# Altium footprint library HEXCAL_PCB_LIB.PcbLib: 209 footprints (part 1 of 14)
Each footprint in its own frame and in the unit in brackets; x right, y up, seen from the top. Pads: shape width x height; smd on the part's side, far side on the other; paste and mask are expansions set on the pad; w line width, h text height; cw(c..) or ccw(c..) is an arc to the next point about the centre after c.
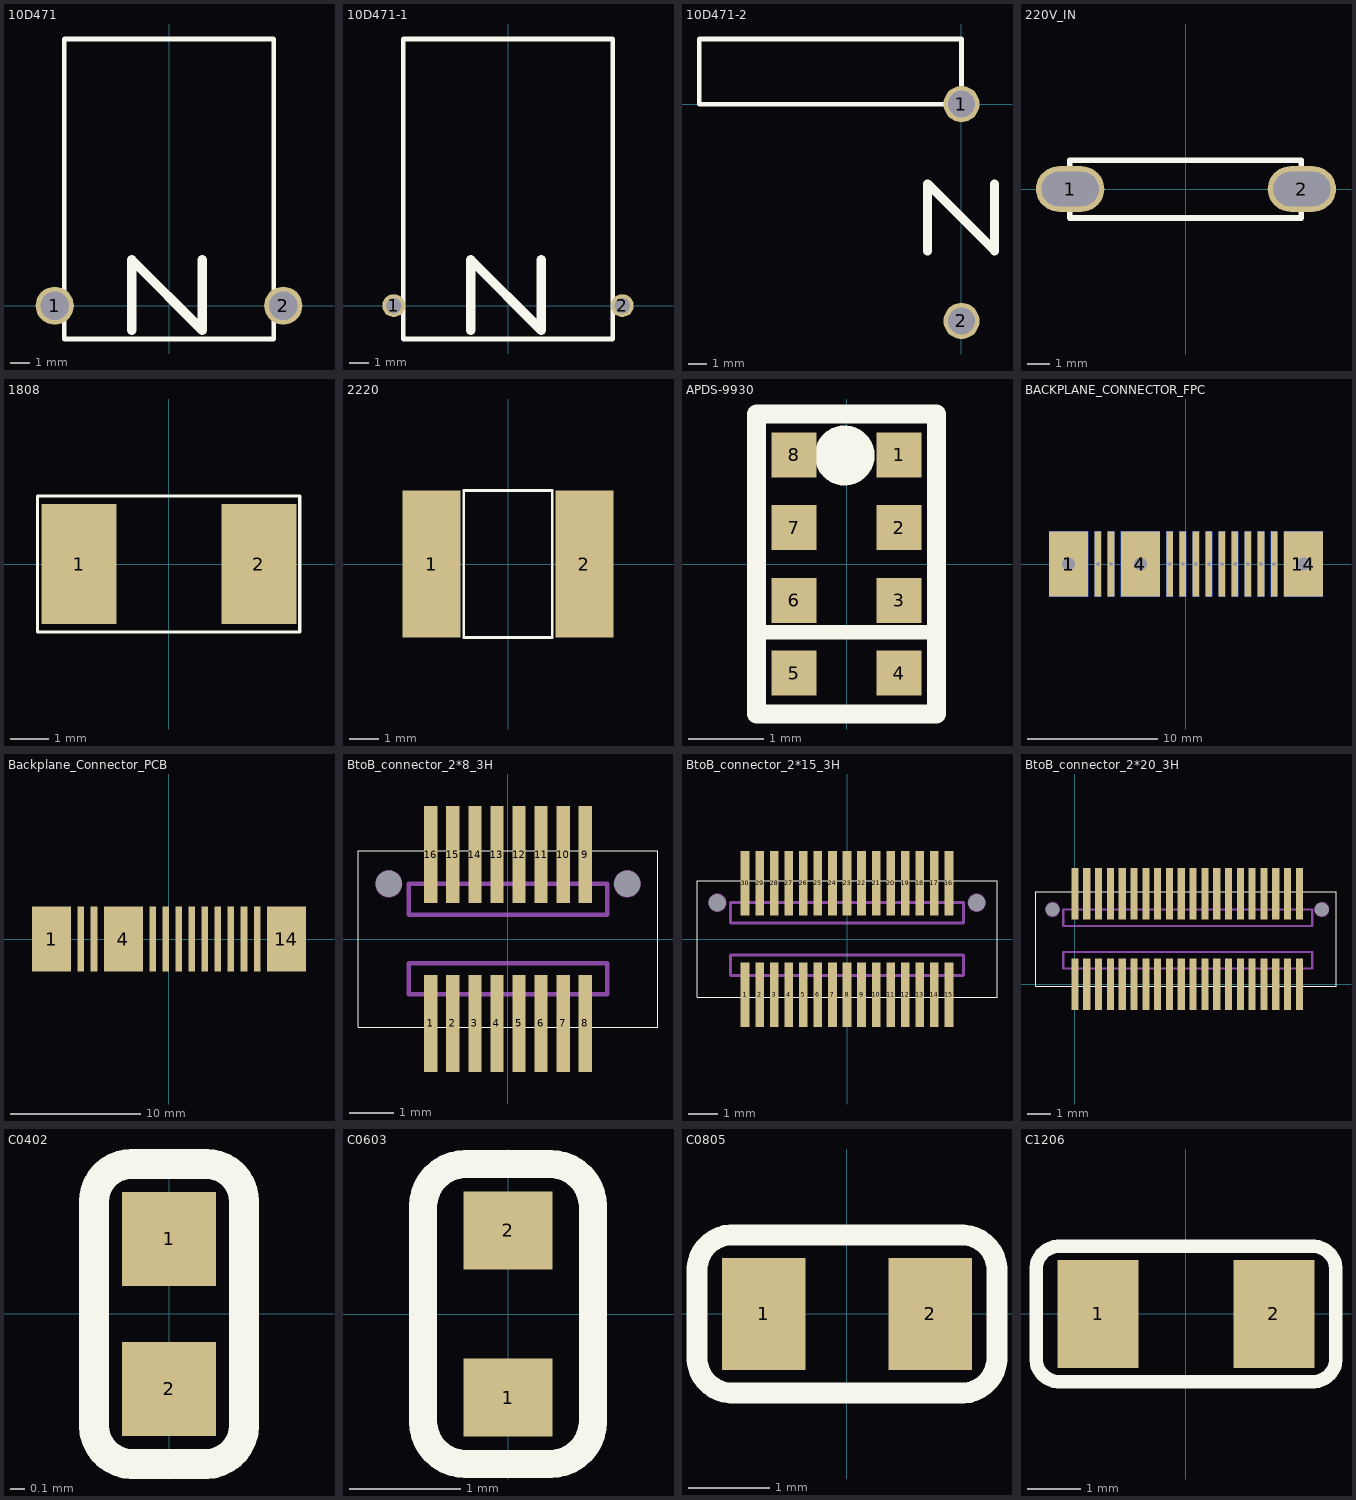
[diagram p0: the footprints below, top view; thin cyan lines are the x and y axes]

## 10D471 [mm]
pads (2):
  round 2 hole 1.5: 1(-6,0) 2(6,0)
Top Overlay:
  lines w0.254: -5.5,-1.75 -5.5,14 5.5,14 5.5,-1.75 -5.5,-1.75
  lines w0.5: -1.956,-1.295 -1.956,2.413 1.753,-1.295 1.753,2.413

## 10D471-1 [mm]
pads (2):
  round 1.2 hole 0.8: 1(-6,0) 2(6,0)
Top Overlay:
  lines w0.254: -5.5,-1.75 5.5,-1.75 5.5,14 -5.5,14 -5.5,-1.75
  lines w0.5: -1.956,-1.295 -1.956,2.413 1.753,-1.295 1.753,2.413

## 10D471-2 [mm]
pads (2):
  round 2 hole 1.5: 1(0,0) 2(0,-12)
Top Overlay:
  lines w0.254: -14.5,0 -14.5,3.6 0,3.6 0,0 -14.5,0
  lines w0.5: -1.88,-8.121 -1.88,-4.413 1.829,-8.121 1.829,-4.413

## 220V_IN [mm]
pads (2):
  oval 3x2 hole 1.5 slot 2.5 at 0 deg: 1(-5.081,0) 2(5.081,0)
Top Overlay:
  lines w0.254: -5.099,-1.277 -5.099,1.263 5.061,1.263 5.061,-1.277 -5.099,-1.277

## 1808 [mm]
pads (2):
  rect 1.96x3.15 smd: 1(-2.337,0) 2(2.362,0)
Top Overlay:
  lines w0.089: -3.429,-1.778 -3.429,1.778 3.429,1.778 3.429,-1.778 -3.429,-1.778

## 2220 [mm]
pads (2):
  rect 1.96x5 smd: 1(-2.6,0) 2(2.6,0)
Top Overlay:
  lines w0.089: -1.5,-2.5 1.5,-2.5 1.5,-0.378 1.5,2.5 -1.5,2.5 -1.5,-2.5

## APDS-9930 [mm]
pads (8):
  rect 0.6x0.6 smd: 1(0.7,1.455) 2(0.7,0.485) 3(0.7,-0.485) 4(0.7,-1.455) 5(-0.7,-1.455) 6(-0.7,-0.485) 7(-0.7,0.485) 8(-0.7,1.455)
Top Overlay:
  circle w0.254: c-0.025,1.448 r0.127
  circle w0.254: c-0.025,1.448 r0.148
  circle w0.254: c-0.025,1.448 r0.274
  lines w0.15: -1.2,-2 -1.2,2 ; 1.2,-2 1.2,2
  lines w0.2: -1.189,-0.91 1.212,-0.91
  lines w0.254: -1.2,-2 1.2,-2 1.2,2 -1.2,2 -1.2,-2

## BACKPLANE_CONNECTOR_FPC [mm]
pads (28):
  rect 3x5 smd: 1(-9,0) 4(-3.5,0) 14(9,0)
  rect 3x5 smd far side: 1(-9,0) 4(-3.5,0) 14(9,0)
  rect 0.5x5 smd: 2(-6.75,0) 3(-5.75,0) 5(-1.25,0) 6(-0.25,0) 7(0.75,0) 8(1.75,0) 9(2.75,0) 10(3.75,0) 11(4.75,0) 12(5.75,0) 13(6.75,0)
  rect 0.5x5 smd far side: 2(-6.75,0) 3(-5.75,0) 5(-1.25,0) 6(-0.25,0) 7(0.75,0) 8(1.75,0) 9(2.75,0) 10(3.75,0) 11(4.75,0) 12(5.75,0) 13(6.75,0)
via -9,0 diameter 2 hole 1
via -3.5,0 diameter 2 hole 1
via 9,0 diameter 2 hole 1
via -6.75,0 diameter 0.5 hole 0.3
via -5.75,0 diameter 0.5 hole 0.3
via -1.25,0 diameter 0.5 hole 0.3
via -0.25,0 diameter 0.5 hole 0.3
via 0.75,0 diameter 0.5 hole 0.3
via 1.75,0 diameter 0.5 hole 0.3
via 2.75,0 diameter 0.5 hole 0.3
via 3.75,0 diameter 0.5 hole 0.3
via 4.75,0 diameter 0.5 hole 0.3
via 5.75,0 diameter 0.5 hole 0.3
via 6.75,0 diameter 0.5 hole 0.3

## Backplane_Connector_PCB [mm]
pads (14):
  rect 3x5 smd: 1(-9,0) 4(-3.5,0) 14(9,0)
  rect 0.5x5 smd: 2(-6.75,0) 3(-5.75,0) 5(-1.25,0) 6(-0.25,0) 7(0.75,0) 8(1.75,0) 9(2.75,0) 10(3.75,0) 11(4.75,0) 12(5.75,0) 13(6.75,0)

## BtoB_connector_2*8_3H [mm]
pads (18):
  round 0 hole 0.6 unplated: 0(-2.7,1.25) 0(2.7,1.25)
  rect 0.3x2.2 smd: 1(-1.75,-1.915) 2(-1.25,-1.915) 3(-0.75,-1.915) 4(-0.25,-1.915) 5(0.25,-1.915) 6(0.75,-1.915) 7(1.25,-1.915) 8(1.75,-1.915) 9(1.75,1.915) 10(1.25,1.915) 11(0.75,1.915) 12(0.25,1.915) 13(-0.25,1.915) 14(-0.75,1.915) 15(-1.25,1.915) 16(-1.75,1.915)
Top Overlay:
  lines w0.013: -3.4,-2 3.4,-2 3.4,2 -3.4,2 -3.4,-2
Keep-Out Layer:
  circle w0.013: c-2.7,1.25 r0.3
  circle w0.013: c2.7,1.25 r0.3
Mechanical 5:
  lines w0.1: -2.25,-1.25 -2.25,-0.55 2.25,-0.55 2.25,-1.25 -2.25,-1.25 ; -2.25,0.55 2.25,0.55 2.25,1.25 -2.25,1.25 -2.25,0.55

## BtoB_connector_2*15_3H [mm]
pads (32):
  round 0 hole 0.6 unplated: 0(-4.45,1.25) 0(4.45,1.25)
  rect 0.3x2.2 smd: 1(-3.5,-1.915) 2(-3,-1.915) 3(-2.5,-1.915) 4(-2,-1.915) 5(-1.5,-1.915) 6(-1,-1.915) 7(-0.5,-1.915) 8(0,-1.915) 9(0.5,-1.915) 10(1,-1.915) 11(1.5,-1.915) 12(2,-1.915) 13(2.5,-1.915) 14(3,-1.915) 15(3.5,-1.915) 16(3.5,1.915) 17(3,1.915) 18(2.5,1.915) 19(2,1.915) 20(1.5,1.915) 21(1,1.915) 22(0.5,1.915) 23(0,1.915) 24(-0.5,1.915) 25(-1,1.915) 26(-1.5,1.915) 27(-2,1.915) 28(-2.5,1.915) 29(-3,1.915) 30(-3.5,1.915)
Top Overlay:
  lines w0.013: -5.15,-2 -5.15,2 5.15,2 5.15,-2 -5.15,-2
Keep-Out Layer:
  circle w0.013: c4.45,1.25 r0.3
  circle w0.013: c-4.45,1.25 r0.3
Mechanical 5:
  lines w0.1: -4,-1.25 -4,-0.55 4,-0.55 4,-1.25 -4,-1.25 ; -4,0.55 -4,1.25 4,1.25 4,0.55 -4,0.55

## BtoB_connector_2*20_3H [mm]
pads (43):
  round 0 hole 0.6 unplated: 0(-0.95,3.165) 0(10.45,3.165)
  rect 0.3x2.2 smd: 1(0,0) 2(0.5,0) 3(1,0) 4(1.5,0) 5(2,0) 6(2.5,0) 7(3,0) 8(3.5,0) 9(4,0) 10(4.5,0) 11(5,0) 12(5.5,0) 13(6,0) 14(6.5,0) 15(7,0) 16(7.5,0) 17(8,0) 18(8.5,0) 19(9,0) 20(9.5,0) 21(9.5,3.83) 21(9.5,3.83) 22(9,3.83) 23(8.5,3.83) 24(8,3.83) 25(7.5,3.83) 26(7,3.83) 27(6.5,3.83) 28(6,3.83) 29(5.5,3.83) 30(5,3.83) 31(4.5,3.83) 32(4,3.83) 33(3.5,3.83) 34(3,3.83) 35(2.5,3.83) 36(2,3.83) 37(1.5,3.83) 38(1,3.83) 39(0.5,3.83) 40(0,3.83)
Top Overlay:
  lines w0.013: -1.65,-0.085 11.05,-0.085 11.05,3.915 -1.65,3.915 -1.65,-0.085
Keep-Out Layer:
  circle w0.013: c-0.95,3.165 r0.3
  circle w0.013: c10.45,3.165 r0.3
Mechanical 5:
  lines w0.1: -0.5,0.665 -0.5,1.365 10.042,1.365 10.042,0.665 -0.5,0.665 ; -0.5,2.465 10.042,2.465 10.042,3.165 -0.5,3.165 -0.5,2.465

## C0402 [mil]
pads (2):
  rect 25x25 smd: 1(0,20) 2(0,-20)
Top Overlay:
  lines w8: -20,-30 ccw(c-9.75,-29.75) -10,-40 10,-40 ccw(c9.75,-29.75) 20,-30 20,30 ccw(c10,30) 10,40 -10,40 ccw(c-10,30) -20,30 -20,-30

## C0603 [mm]
pads (2):
  rect 0.8x0.7 smd: 1(0,-0.75) 2(0,0.75)
Top Overlay:
  lines w0.254: -0.762,-0.965 ccw(c-0.381,-0.965) -0.381,-1.346 0.381,-1.346 ccw(c0.381,-0.965) 0.762,-0.965 0.762,0.965 ccw(c0.381,0.965) 0.381,1.346 -0.381,1.346 ccw(c-0.381,0.965) -0.762,0.965 -0.762,-0.965

## C0805 [mil]
pads (2):
  rect 40x54 smd: 1(-40,0) 2(40,0)
Top Overlay:
  lines w10: -72,-21.98 ccw(c-55,-21) -56.01,-38 56,-38 ccw(c55,-21) 72,-22.01 72,22 ccw(c55,21) 56.01,38 -56,38 ccw(c-55,21) -72,22.01 -72,-22

## C1206 [mil]
pads (2):
  rect 60x80 smd: 1(-65,0) 2(65,0)
Top Overlay:
  lines w10: -110.99,-33.98 ccw(c-93.99,-33) -95,-50 95,-50 ccw(c94.02,-33) 111.02,-34.01 111,33.98 ccw(c94,33) 95.01,50 -95,50 ccw(c-94,33) -111,34.01 -111,-33.97